# EAGLE library part LT1461 (library borkedlabs-powerics)
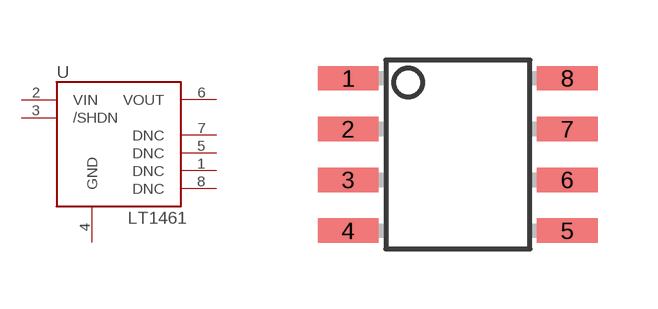
[diagram p11: symbol with the pads of SO-8; footprint SO-8]

Designator prefix U

## LT1461  [SO-8]
1  DNC  nc
2  VIN
3  /SHDN
4  GND
5  DNC  nc
6  VOUT
7  DNC  nc
8  DNC  nc

## Footprint SO-8 (pad centres in mm)
SO 8 small outline
smd 1.524 x 0.61: 1 -2.743,1.905; 2 -2.743,0.635; 3 -2.743,-0.635; 4 -2.743,-1.905; 5 2.743,-1.905; 6 2.743,-0.635; 7 2.743,0.635; 8 2.743,1.905